# EAGLE library part RELAY (library useful)
AUTOMOTIVE MICRO-ISO RELAY NAiS en_ds_61204_0000.pdf
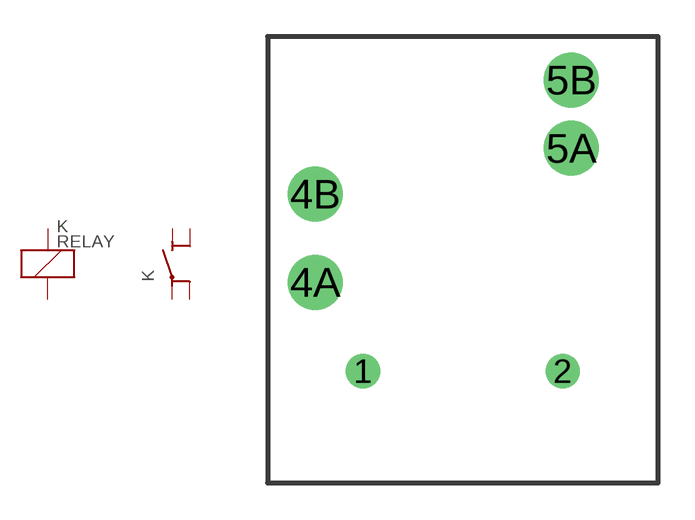
[diagram p1: symbol with the pads of RELAY; footprint RELAY]

Designator prefix K; gates 1=K 2=S

## RELAY  [RELAY]
1  1:1  pas
2  1:2  pas
4A  2:P  pas
4B  2:P  pas
5A  2:S  pas
5B  2:S  pas

## Footprint RELAY (pad centres in mm)
AUTOMOTIVE MICRO-ISO RELAY NAiS Source: http://www.mew-europe.com/.. en_ds_61204_0000.pdf
drill 0.9: 1 -4.09,-4.56; 2 4.09,-4.56
drill 1.5: 4A -6.05,-0.93; 4B -6.05,2.69; 5A 4.44,4.57; 5B 4.44,7.37